# Altium footprint library 专用A.PcbLib: 94 footprints (part 5 of 6)
Each footprint in its own frame and in the unit in brackets; x right, y up, seen from the top. Pads: shape width x height; smd on the part's side, far side on the other; paste and mask are expansions set on the pad; w line width, h text height; cw(c..) or ccw(c..) is an arc to the next point about the centre after c.
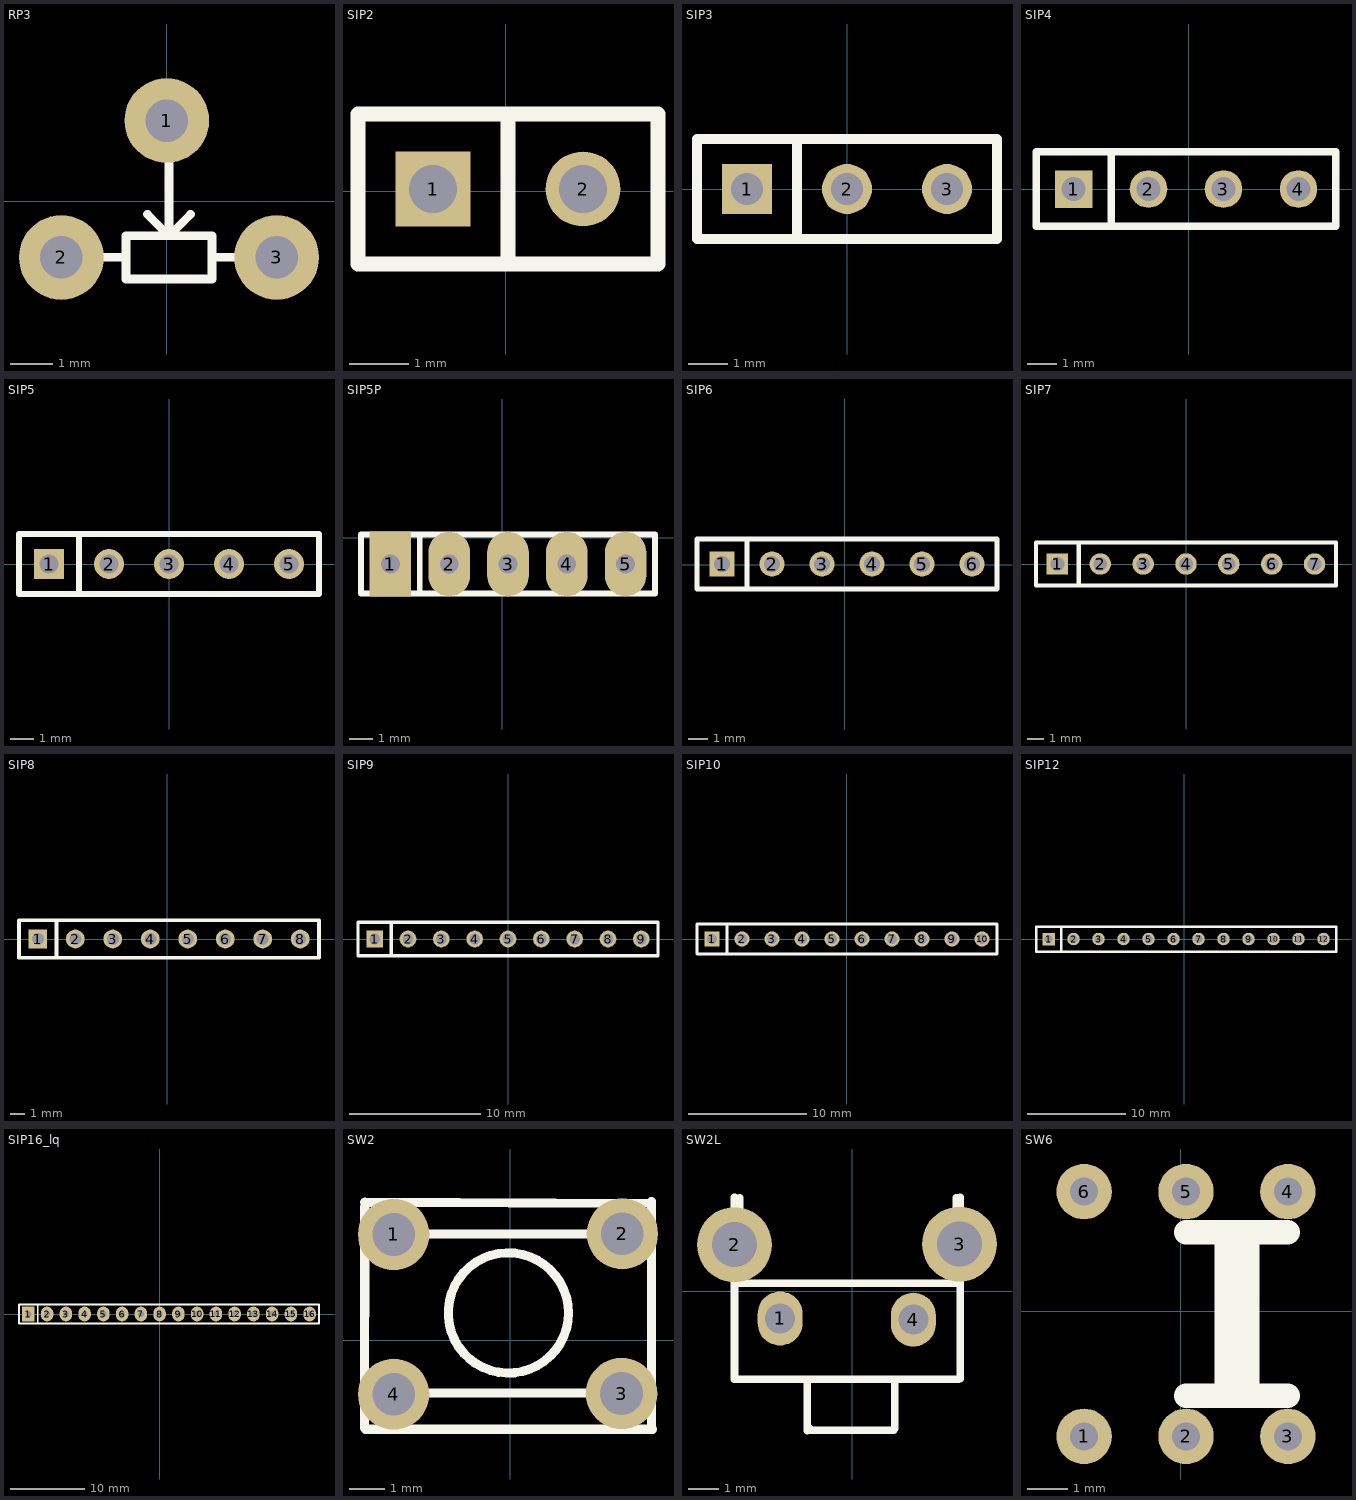
[diagram p4: the footprints below, top view; thin cyan lines are the x and y axes]

## RP3 [mm]
pads (3):
  round 2 hole 1: 1(0,1.905) 2(-2.488,-1.325) 3(2.592,-1.325)
TopOverlay:
  lines w0.203: -2.488,-1.325 -0.964,-1.325 ; -0.456,-0.309 0.052,-0.817 ; 0.052,2.739 0.052,-0.817 ; 0.56,-0.309 0.052,-0.817 ; 1.068,-1.325 2.592,-1.325 ; -0.964,-1.325 -0.964,-1.833 1.068,-1.833 1.068,-0.817 -0.964,-0.817 -0.964,-1.325

## SIP2 [mil]
pads (2):
  rect 50x50 hole 32: 1(-48.5,1.42)
  round 50 hole 32: 2(51.5,1.42)
TopOverlay:
  lines w10: 1.5,-48.58 1.5,51.42 ; -98.5,-48.58 101.5,-48.58 101.5,51.42 -98.5,51.42 -98.5,-48.58

## SIP3 [mil]
pads (3):
  rect 50x50 hole 32: 1(-100,0)
  round 50 hole 32: 2(0,0) 3(100,0)
TopOverlay:
  lines w10: -50,-50 -50,50 ; -150,-50 150,-50 150,50 -150,50 -150,-50

## SIP4 [mil]
pads (4):
  rect 50x50 hole 32: 1(-153.62,0)
  round 50 hole 32: 2(-53.62,0) 3(46.38,0) 4(146.38,0)
TopOverlay:
  lines w10: -103.62,-50 -103.62,50 ; -203.62,-50 -203.62,50 196.38,50 196.38,-50 -203.62,-50

## SIP5 [mil]
pads (5):
  rect 50x50 hole 32: 1(-200,0)
  round 50 hole 32: 2(-100,0) 3(0,0) 4(100,0) 5(200,0)
TopOverlay:
  lines w10: -150,-50 -150,50 ; -250,-50 -250,50 250,50 250,-50 -250,-50

## SIP5P [mil]
pads (5):
  rect 70.87x110.24 hole 32: 1(-190,-45)
  oval 70.87x110.24 hole 32: 2(-90,-45) 3(10,-45) 4(110,-45) 5(210,-45)
TopOverlay:
  lines w10: -140,-95 -140,5 ; -240,-95 -240,5 260,5 260,-95 -240,-95

## SIP6 [mil]
pads (6):
  rect 50x50 hole 32: 1(-245.98,1.57)
  round 50 hole 32: 2(-145.98,1.57) 3(-45.98,1.57) 4(54.02,1.57) 5(154.02,1.57) 6(254.02,1.57)
TopOverlay:
  lines w10: -195.98,-48.43 -195.98,51.57 ; -295.98,-48.43 -295.98,51.57 304.02,51.57 304.02,-48.43 -295.98,-48.43

## SIP7 [mil]
pads (7):
  rect 50x50 hole 32: 1(-300,0)
  round 50 hole 32: 2(-200,0) 3(-100,0) 4(0,0) 5(100,0) 6(200,0) 7(300,0)
TopOverlay:
  lines w10: -250,-50 -250,50 ; -350,-50 350,-50 350,50 -350,50 -350,-50

## SIP8 [mil]
pads (8):
  rect 50x50 hole 32: 1(-345.43,0.71)
  round 50 hole 32: 2(-245.43,0.71) 3(-145.43,0.71) 4(-45.43,0.71) 5(54.57,0.71) 6(154.57,0.71) 7(254.57,0.71) 8(354.57,0.71)
TopOverlay:
  lines w10: -295.43,-49.29 -295.43,50.71 ; -395.43,-49.29 404.57,-49.29 404.57,50.71 -395.43,50.71 -395.43,-49.29

## SIP9 [mil]
pads (9):
  rect 50x50 hole 32: 1(-400,0)
  round 50 hole 32: 2(-300,0) 3(-200,0) 4(-100,0) 5(0,0) 6(100,0) 7(200,0) 8(300,0) 9(400,0)
TopOverlay:
  lines w10: -350,-50 -350,50 ; -450,-50 450,-50 450,50 -450,50 -450,-50

## SIP10 [mil]
pads (10):
  rect 50x50 hole 32: 1(-449.37,0)
  round 50 hole 32: 2(-349.37,0) 3(-249.37,0) 4(-149.37,0) 5(-49.37,0) 6(50.63,0) 7(150.63,0) 8(250.63,0) 9(350.63,0) 10(450.63,0)
TopOverlay:
  lines w10: -399.37,-50 -399.37,50 ; -499.37,-50 -499.37,50 500.63,50 500.63,-50 -499.37,-50

## SIP12 [mil]
pads (12):
  rect 50x50 hole 32: 1(-543.31,1.42)
  round 50 hole 32: 2(-443.31,1.42) 3(-343.31,1.42) 4(-243.31,1.42) 5(-143.31,1.42) 6(-43.31,1.42) 7(56.69,1.42) 8(156.69,1.42) 9(256.69,1.42) 10(356.69,1.42) 11(456.69,1.42) 12(556.69,1.42)
TopOverlay:
  lines w10: -493.31,-48.58 -493.31,51.42 ; -593.31,-48.58 606.69,-48.58 606.69,51.42 -593.31,51.42 -593.31,-48.58

## SIP16_lq [mm]
pads (16):
  rect 1.7x2 hole 0.813: 1(-17.78,0)
  oval 1.7x2 hole 0.813: 2(-15.24,0) 3(-12.7,0) 4(-10.16,0) 5(-7.62,0) 6(-5.08,0) 7(-2.54,0) 8(0,0) 9(2.54,0) 10(5.08,0) 11(7.62,0) 12(10.16,0) 13(12.7,0) 14(15.24,0) 15(17.78,0) 16(20.32,0)
TopOverlay:
  lines w0.254: -16.51,-1.27 -16.51,1.27 ; -19.05,-1.27 -19.05,1.27 21.59,1.27 21.59,-1.27 -19.05,-1.27

## SW2 [mm]
pads (4):
  round 2 hole 1.2: 1(-3.27,2.96) 2(3.14,2.98) 3(3.12,-1.5) 4(-3.27,-1.52)
TopOverlay:
  circle w0.254: c-0.056,0.76 r1.686
  lines w0.254: -4.09,-2.46 -4.08,3.735 ; -4.08,3.862 3.96,3.83 ; -4.062,-2.5 3.98,-2.5 ; -3.191,2.973 3.413,2.973 ; -3.107,-1.48 3.37,-1.48 ; 3.958,-2.502 3.96,3.88

## SW2L [mm]
pads (4):
  oval 1.5x1.8 hole 1: 1(-2.4,-0.9) 4(2.04,-0.94)
  round 2.5 hole 1.5: 2(-3.92,1.56) 3(3.58,1.58)
TopOverlay:
  lines w0.254: -3.92,3.14 -3.92,-2.92 3.56,-2.92 ; -3.88,0.28 3.6,0.28 ; -3.74,3.12 -3.74,0.42 -3.72,0.4 ; -1.5,-2.92 -1.5,-4.64 -1.42,-4.56 ; -1.46,-4.62 1.38,-4.62 1.42,-4.58 1.42,-3.02 ; 3.48,0.46 3.48,3.12 ; 3.6,-2.9 3.6,3.14

## SW6 [mm]
pads (6):
  round 1.38 hole 0.7: 1(-2.409,-3.119) 2(0.131,-3.119) 3(2.671,-3.119) 4(2.671,2.977) 5(0.131,2.977) 6(-2.409,2.977)
TopOverlay:
  lines w0.61: 0.131,-2.103 2.671,-2.103 ; 0.131,1.961 2.671,1.961 ; 1.147,-2.103 1.147,1.707 ; 1.655,-2.103 1.655,1.961